# EAGLE library part QUAD_OPAMP (library greghale_eib_preamp)
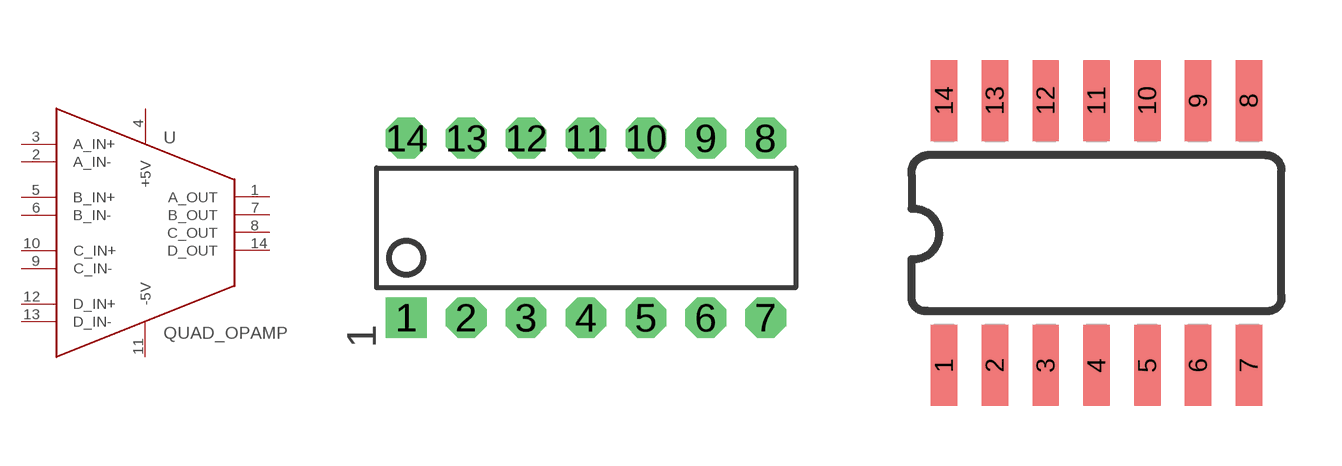
[diagram p1: symbol with the pads of DIP14; footprints DIP14, SOIC-14]

Designator prefix -

## QUAD_OPAMPDIP  [DIP14]
1  A_OUT
2  A_IN-
3  A_IN+
4  +5V
5  B_IN+
6  B_IN-
7  B_OUT
8  C_OUT
9  C_IN-
10  C_IN+
11  -5V
12  D_IN+
13  D_IN-
14  D_OUT

## QUAD_OPAMPSOIC  [SOIC-14]
Pads as for DIP14

## QUAD_OPAMPLFCSP  [LFCSP16]
1  A_IN-
2  A_IN+
3  +5V
4  B_IN+
5  B_IN-
6  B_OUT
7  C_OUT
8  C_IN-
9  C_IN+
10  -5V
11  D_IN+
12  D_IN-
14  D_OUT
15  A_OUT

## QUAD_OPAMPLFCSP_T  [LFCSP16_THERMAL]
Pads as for LFCSP16

## Footprint DIP14 (pad centres in mm)
drill 1 pad 1.727 square: 1 -7.62,-3.81
drill 1 pad 1.727 octagon: 2 -5.08,-3.81; 3 -2.54,-3.81; 4 0,-3.81; 5 2.54,-3.81; 6 5.08,-3.81; 7 7.62,-3.81; 8 7.62,3.81; 9 5.08,3.81; 10 2.54,3.81; 11 0,3.81; 12 -2.54,3.81; 13 -5.08,3.81; 14 -7.62,3.81

## Footprint SOIC-14 (pad centres in mm)
smd 0.66 x 2.032: 1 -4.445,-3.315; 2 -3.175,-3.315; 3 -1.905,-3.315; 4 -0.635,-3.315; 5 0.635,-3.315; 6 1.905,-3.315; 7 3.175,-3.315; 8 3.175,3.315; 9 1.905,3.315; 10 0.635,3.315; 11 -0.635,3.315; 12 -1.905,3.315; 13 -3.175,3.315; 14 -4.445,3.315

## Footprint LFCSP16 (pad centres in mm)
smd 0.5 x 0.3: 1 -1.5,0.75; 2 -1.5,0.25; 3 -1.5,-0.25; 4 -1.5,-0.75; 9 1.5,-0.75; 10 1.5,-0.25; 11 1.5,0.25; 12 1.5,0.75
smd 0.3 x 0.5: 5 -0.75,-1.5; 6 -0.25,-1.5; 7 0.25,-1.5; 8 0.75,-1.5; 13 0.75,1.5; 14 0.25,1.5; 15 -0.25,1.5; 16 -0.75,1.5

## Footprint LFCSP16_THERMAL (pad centres in mm)
smd 0.5 x 0.3: 1 -1.5,0.75; 2 -1.5,0.25; 3 -1.5,-0.25; 4 -1.5,-0.75; 9 1.5,-0.75; 10 1.5,-0.25; 11 1.5,0.25; 12 1.5,0.75
smd 0.3 x 0.5: 5 -0.75,-1.5; 6 -0.25,-1.5; 7 0.25,-1.5; 8 0.75,-1.5; 13 0.75,1.5; 14 0.25,1.5; 15 -0.25,1.5; 16 -0.75,1.5
smd 1.25 x 1.25: THERM 0,0